# EAGLE library part LTC3113 (library LT3113)
Buck-Boost DC/DC Converter
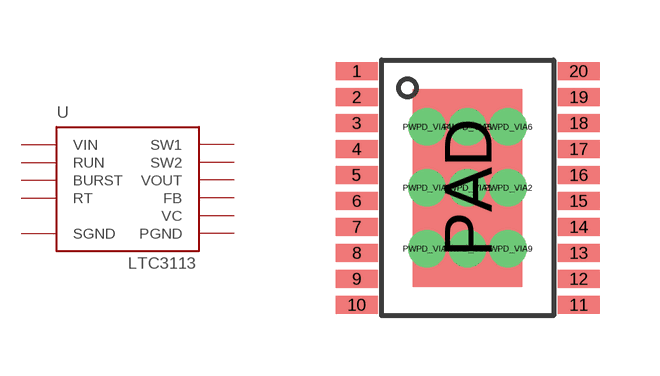
[diagram p0: symbol with the pads of LTC3113_FE; footprint LTC3113_FE]

Designator prefix -

## LTC3113  [LTC3113_FE]
1  PGND  pwr
2  VOUT  pwr
3  VOUT  pwr
4  VIN  pwr
5  VIN  pwr
6  VIN  pwr
7  SGND  pwr
8  BURST  in
9  RT  in
10  PGND  pwr
11  PGND  pwr
12  VC  in
13  FB  in
14  RUN  in
15  SW1
16  SW1
17  SW1
18  SW2
19  SW2
20  PGND  pwr
PAD  PGND  pwr
PWPD_VIA1  PGND  pwr
PWPD_VIA2  PGND  pwr
PWPD_VIA3  PGND  pwr
PWPD_VIA4  PGND  pwr
PWPD_VIA5  PGND  pwr
PWPD_VIA6  PGND  pwr
PWPD_VIA7  PGND  pwr
PWPD_VIA8  PGND  pwr
PWPD_VIA9  PGND  pwr

## Footprint LTC3113_FE (pad centres in mm)
FE Package variant of the LTC3113
smd 1.05 x 0.45: 1 -2.775,2.925; 2 -2.775,2.275; 3 -2.775,1.625; 4 -2.775,0.975; 5 -2.775,0.325; 6 -2.775,-0.325; 7 -2.775,-0.975; 8 -2.775,-1.625; 9 -2.775,-2.275; 10 -2.775,-2.925; 11 2.775,-2.925; 12 2.775,-2.275; 13 2.775,-1.625; 14 2.775,-0.975; 15 2.775,-0.325; 16 2.775,0.325; 17 2.775,0.975; 18 2.775,1.625; 19 2.775,2.275; 20 2.775,2.925
smd 2.74 x 4.95: PAD 0,0
drill 0.432 pad 0.61: PWPD_VIA1 0,0; PWPD_VIA2 1.016,0; PWPD_VIA3 -1.016,0; PWPD_VIA4 -1.016,1.524; PWPD_VIA5 0,1.524; PWPD_VIA6 1.016,1.524; PWPD_VIA7 -1.016,-1.524; PWPD_VIA8 0,-1.524; PWPD_VIA9 1.016,-1.524